# Altium schematic symbol library AWR1843ABGABLQ1.SchLib: 1 symbol
Pins are listed as number, name and electrical type; pins without a type are passive.

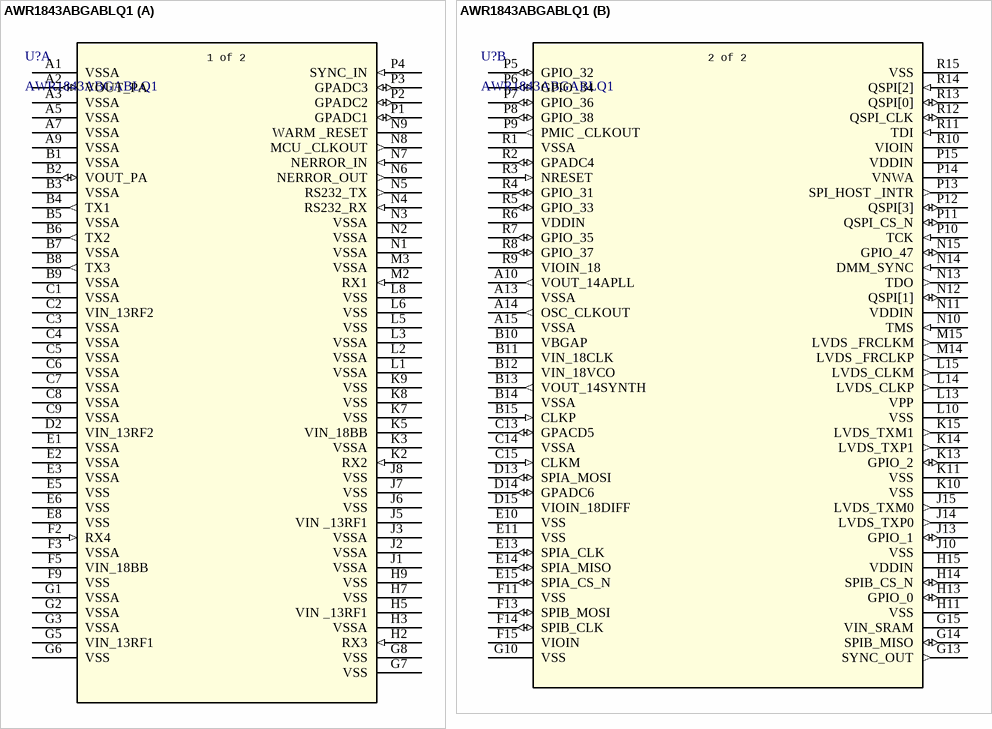
[diagram p0: symbol AWR1843ABGABLQ1]

## AWR1843ABGABLQ1
designator U?
Single-chip 76-GHz to 81-GHz automotive radar sensor integrating DSP, MCU and radar accelerator 161-FCCSP -40 to 125; Manufacturer_Name: Texas Instruments; Copyright: Copyright (C) 2025 Ultra Librarian. All rights reserved.; Manufacturer_Part_Number: AWR1843ABGABLQ1; RefDes: RefDes; Type: Type
footprint FCCSP161_ABL_TEX
part A pins: A1 VSSA (power), A2 VOUT_PA (io), A3 VSSA (power), A5 VSSA (power), A7 VSSA (power), A9 VSSA (power), B1 VSSA (power), B2 VOUT_PA (io), B3 VSSA (power), B4 TX1 (out), B5 VSSA (power), B6 TX2 (out), B7 VSSA (power), B8 TX3 (out), B9 VSSA (power), C1 VSSA (power), C2 VIN_13RF2 (power), C3 VSSA (power), C4 VSSA (power), C5 VSSA (power), C6 VSSA (power), C7 VSSA (power), C8 VSSA (power), C9 VSSA (power), D2 VIN_13RF2 (power), E1 VSSA (power), E2 VSSA (power), E3 VSSA (power), E5 VSS (power), E6 VSS (power), E8 VSS (power), F2 RX4 (in), F3 VSSA (power), F5 VIN_18BB (power), F9 VSS (power), G1 VSSA (power), G2 VSSA (power), G3 VSSA (power), G5 VIN_13RF1 (power), G6 VSS (power), G7 VSS (power), G8 VSS (power), H2 RX3 (in), H3 VSSA (power), H5 VIN _13RF1 (power), H7 VSS (power), H9 VSS (power), J1 VSSA (power), J2 VSSA (power), J3 VSSA (power), J5 VIN _13RF1 (power), J6 VSS (power), J7 VSS (power), J8 VSS (power), K2 RX2 (in), K3 VSSA (power), K5 VIN_18BB (power), K7 VSS (power), K8 VSS (power), K9 VSS (power), L1 VSSA (power), L2 VSSA (power), L3 VSSA (power), L5 VSS (power), L6 VSS (power), L8 VSS (power), M2 RX1 (in), M3 VSSA (power), N1 VSSA (power), N2 VSSA (power), N3 VSSA (power), N4 RS232_RX (in), N5 RS232_TX (out), N6 NERROR_OUT (out), N7 NERROR_IN (in), N8 MCU _CLKOUT (out), N9 WARM _RESET, P1 GPADC1 (io), P2 GPADC2 (io), P3 GPADC3 (io), P4 SYNC_IN (in)
part B pins: A10 VOUT_14APLL (out), A13 VSSA (power), A14 OSC_CLKOUT (out), A15 VSSA (power), B10 VBGAP (power), B11 VIN_18CLK (power), B12 VIN_18VCO (power), B13 VOUT_14SYNTH (out), B14 VSSA (power), B15 CLKP (in), C13 GPACD5 (io), C14 VSSA (power), C15 CLKM (in), D13 SPIA_MOSI (io), D14 GPADC6 (io), D15 VIOIN_18DIFF (power), E10 VSS (power), E11 VSS (power), E13 SPIA_CLK (io), E14 SPIA_MISO (io), E15 SPIA_CS_N (io), F11 VSS (power), F13 SPIB_MOSI (io), F14 SPIB_CLK (io), F15 VIOIN (power), G10 VSS (power), G13 SYNC_OUT (out), G14 SPIB_MISO (io), G15 VIN_SRAM (power), H11 VSS (power), H13 GPIO_0 (io), H14 SPIB_CS_N (io), H15 VDDIN (power), J10 VSS (power), J13 GPIO_1 (io), J14 LVDS_TXP0 (out), J15 LVDS_TXM0 (out), K10 VSS (power), K11 VSS (power), K13 GPIO_2 (io), K14 LVDS_TXP1 (out), K15 LVDS_TXM1 (out), L10 VSS (power), L13 VPP (power), L14 LVDS_CLKP (out), L15 LVDS_CLKM (out), M14 LVDS _FRCLKP (out), M15 LVDS _FRCLKM (out), N10 TMS (in), N11 VDDIN (power), N12 QSPI[1] (io), N13 TDO (out), N14 DMM_SYNC (in), N15 GPIO_47 (io), P5 GPIO_32 (io), P6 GPIO_34 (io), P7 GPIO_36 (io), P8 GPIO_38 (io), P9 PMIC _CLKOUT (out), P10 TCK (in), P11 QSPI_CS_N (io), P12 QSPI[3] (io), P13 SPI_HOST _INTR (out), P14 VNWA (power), P15 VDDIN (power), R1 VSSA (power), R2 GPADC4 (io), R3 NRESET (in), R4 GPIO_31 (io), R5 GPIO_33 (io), R6 VDDIN (power), R7 GPIO_35 (io), R8 GPIO_37 (io), R9 VIOIN_18 (power), R10 VIOIN (power), R11 TDI (in), R12 QSPI_CLK (io), R13 QSPI[0] (io), R14 QSPI[2] (in), R15 VSS (power)
part A text: 1 of 2
part B text: 2 of 2